# Altium footprint library 532614009.PcbLib: 3 footprints
Each footprint in its own frame and in the unit in brackets; x right, y up, seen from the top. Pads: shape width x height; smd on the part's side, far side on the other; paste and mask are expansions set on the pad; w line width, h text height; cw(c..) or ccw(c..) is an arc to the next point about the centre after c.
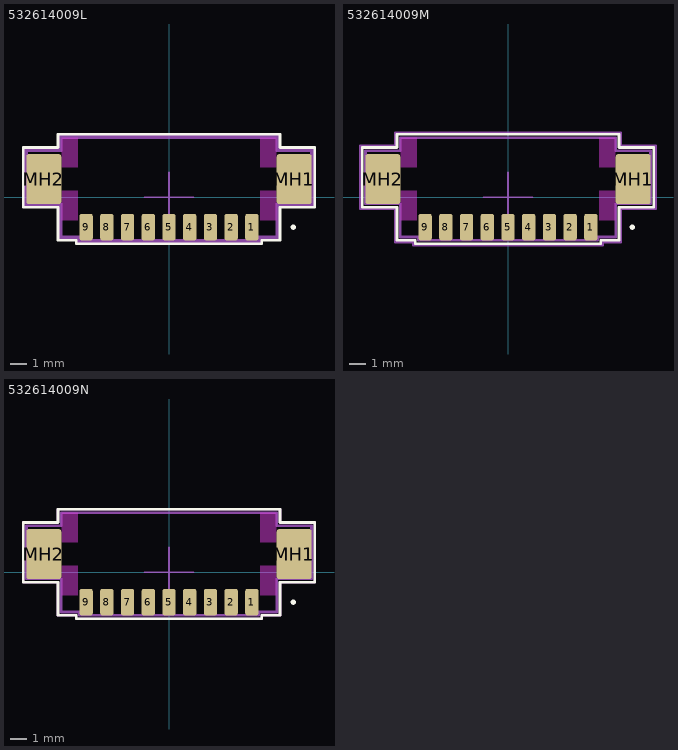
[diagram p0: the footprints below, top view; thin cyan lines are the x and y axes]

## 532614009L [mm] "Molex PicoBlade 9-Pin Right-Angle Connector with Gold Coating"
height 3.4
pads (11):
  rrect31% 0.8x1.6 smd: 1(5,-1.8) 2(3.75,-1.8) 3(2.5,-1.8) 4(1.25,-1.8) 5(0,-1.8) 6(-1.25,-1.8) 7(-2.5,-1.8) 8(-3.75,-1.8) 9(-5,-1.8)
  rrect12% 2.1x3 smd: MH1(7.55,1.1) MH2(-7.55,1.1)
Top Layer keep-out:
  rectangle: -6.5,3.6 -5.5,1.8
  rectangle: 6.5,3.6 5.5,1.8
  rectangle: -6.5,-1.4 -5.5,0.4
  rectangle: 6.5,-1.4 5.5,0.4
Top Overlay:
  circle w0.16: c7.5,-1.8 r0.08
  lines w0.16: -8.8,-0.6 -6.7,-0.6 -6.7,-2.6 -5.6,-2.6 -5.6,-2.8 5.6,-2.8 5.6,-2.6 6.7,-2.6 6.7,-0.6 8.8,-0.6 8.8,3 6.7,3 6.7,3.8 -6.7,3.8 -6.7,3 -8.8,3 -8.8,-0.6
Top Component Center:
  lines w0.1: -1.5,0 1.5,0 ; 0,-1.5 0,1.5
Top Courtyard:
  lines w0.16: -8.7,-0.5 -6.6,-0.5 -6.6,-2.5 -5.5,-2.5 -5.5,-2.7 5.5,-2.7 5.5,-2.5 6.6,-2.5 6.6,-0.5 8.7,-0.5 8.7,2.9 6.6,2.9 6.6,3.7 -6.6,3.7 -6.6,2.9 -8.7,2.9 -8.7,-0.5
Top Assembly:
  lines w0.16: -8.6,-0.4 -6.5,-0.4 -6.5,-2.4 -5.4,-2.4 -5.4,-2.6 5.4,-2.6 5.4,-2.4 6.5,-2.4 6.5,-0.4 8.6,-0.4 8.6,2.8 6.5,2.8 6.5,3.6 -6.5,3.6 -6.5,2.8 -8.6,2.8 -8.6,-0.4
3D body "532614009L.STEP": height 3.4, standoff 0, extent -8.2,-2 8.2,3.2

## 532614009M [mm] "Molex PicoBlade 9-Pin Right-Angle Connector with Gold Coating"
height 3.4
pads (11):
  rrect31% 0.8x1.6 smd: 1(5,-1.8) 2(3.75,-1.8) 3(2.5,-1.8) 4(1.25,-1.8) 5(0,-1.8) 6(-1.25,-1.8) 7(-2.5,-1.8) 8(-3.75,-1.8) 9(-5,-1.8)
  rrect12% 2.1x3 smd: MH1(7.55,1.1) MH2(-7.55,1.1)
Top Layer keep-out:
  rectangle: -6.5,3.6 -5.5,1.8
  rectangle: 6.5,3.6 5.5,1.8
  rectangle: -6.5,-1.4 -5.5,0.4
  rectangle: 6.5,-1.4 5.5,0.4
Top Overlay:
  circle w0.16: c7.5,-1.8 r0.08
  lines w0.16: -8.8,-0.6 -6.7,-0.6 -6.7,-2.6 -5.6,-2.6 -5.6,-2.8 5.6,-2.8 5.6,-2.6 6.7,-2.6 6.7,-0.6 8.8,-0.6 8.8,3 6.7,3 6.7,3.8 -6.7,3.8 -6.7,3 -8.8,3 -8.8,-0.6
Top Component Center:
  lines w0.1: -1.5,0 1.5,0 ; 0,-1.5 0,1.5
Top Courtyard:
  lines w0.16: -8.9,-0.7 -6.8,-0.7 -6.8,-2.7 -5.7,-2.7 -5.7,-2.9 5.7,-2.9 5.7,-2.7 6.8,-2.7 6.8,-0.7 8.9,-0.7 8.9,3.1 6.8,3.1 6.8,3.9 -6.8,3.9 -6.8,3.1 -8.9,3.1 -8.9,-0.7
Top Assembly:
  lines w0.16: -8.6,-0.4 -6.5,-0.4 -6.5,-2.4 -5.4,-2.4 -5.4,-2.6 5.4,-2.6 5.4,-2.4 6.5,-2.4 6.5,-0.4 8.6,-0.4 8.6,2.8 6.5,2.8 6.5,3.6 -6.5,3.6 -6.5,2.8 -8.6,2.8 -8.6,-0.4
3D body "532614009M.STEP": height 3.4, standoff 0, extent -8.2,-2 8.2,3.2

## 532614009N [mm] "Molex PicoBlade 9-Pin Right-Angle Connector with Gold Coating"
height 3.4
pads (11):
  rrect31% 0.8x1.6 smd: 1(5,-1.8) 2(3.75,-1.8) 3(2.5,-1.8) 4(1.25,-1.8) 5(0,-1.8) 6(-1.25,-1.8) 7(-2.5,-1.8) 8(-3.75,-1.8) 9(-5,-1.8)
  rrect12% 2.1x3 smd: MH1(7.55,1.1) MH2(-7.55,1.1)
Top Layer keep-out:
  rectangle: -6.5,3.6 -5.5,1.8
  rectangle: 6.5,3.6 5.5,1.8
  rectangle: -6.5,-1.4 -5.5,0.4
  rectangle: 6.5,-1.4 5.5,0.4
Top Overlay:
  circle w0.16: c7.5,-1.8 r0.08
  lines w0.16: -8.8,-0.6 -6.7,-0.6 -6.7,-2.6 -5.6,-2.6 -5.6,-2.8 5.6,-2.8 5.6,-2.6 6.7,-2.6 6.7,-0.6 8.8,-0.6 8.8,3 6.7,3 6.7,3.8 -6.7,3.8 -6.7,3 -8.8,3 -8.8,-0.6
Top Component Center:
  lines w0.1: -1.5,0 1.5,0 ; 0,-1.5 0,1.5
Top Courtyard:
  lines w0.16: -8.8,-0.6 -6.7,-0.6 -6.7,-2.6 -5.6,-2.6 -5.6,-2.8 5.6,-2.8 5.6,-2.6 6.7,-2.6 6.7,-0.6 8.8,-0.6 8.8,3 6.7,3 6.7,3.8 -6.7,3.8 -6.7,3 -8.8,3 -8.8,-0.6
Top Assembly:
  lines w0.16: -8.6,-0.4 -6.5,-0.4 -6.5,-2.4 -5.4,-2.4 -5.4,-2.6 5.4,-2.6 5.4,-2.4 6.5,-2.4 6.5,-0.4 8.6,-0.4 8.6,2.8 6.5,2.8 6.5,3.6 -6.5,3.6 -6.5,2.8 -8.6,2.8 -8.6,-0.4
3D body "532614009N.STEP": height 3.4, standoff 0, extent -8.2,-2 8.2,3.2